# Altium footprint library Mechanicals.PcbLib: 13 footprints
Each footprint in its own frame and in the unit in brackets; x right, y up, seen from the top. Pads: shape width x height; smd on the part's side, far side on the other; paste and mask are expansions set on the pad; w line width, h text height; cw(c..) or ccw(c..) is an arc to the next point about the centre after c.
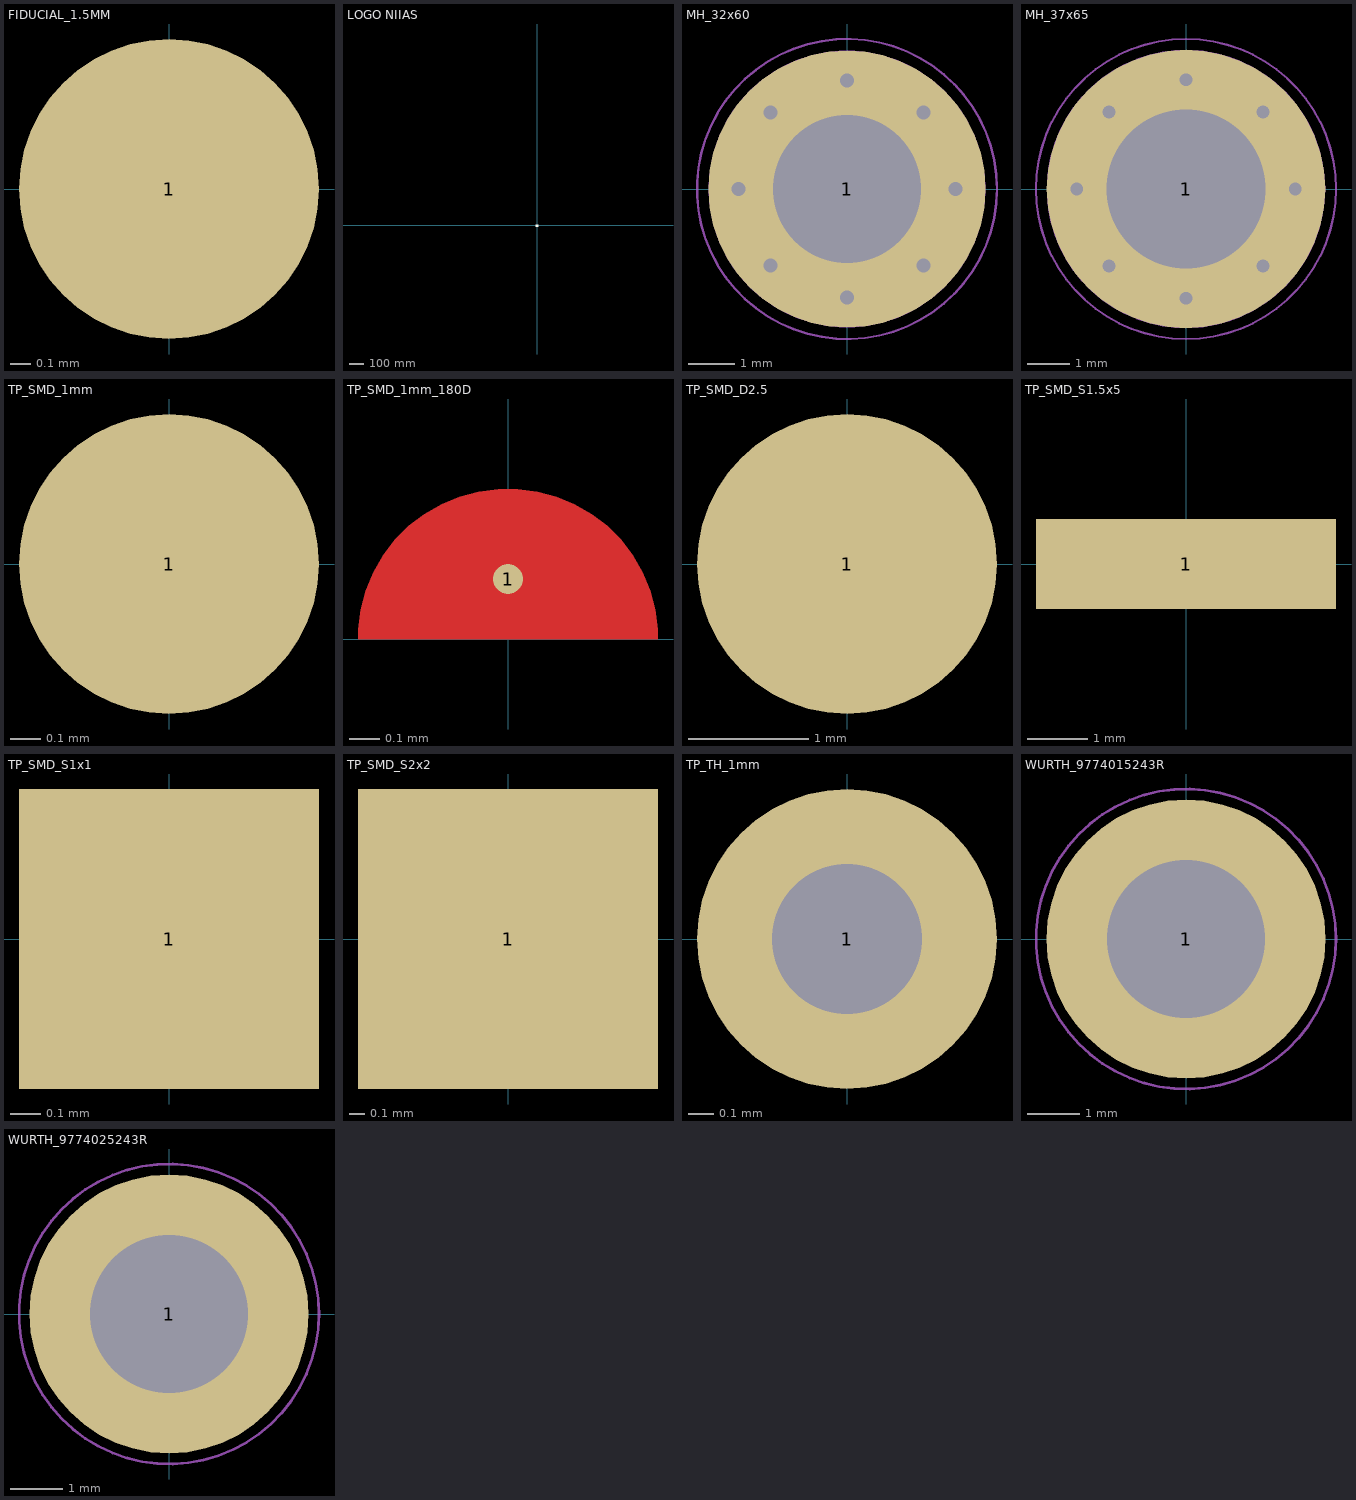
[diagram p0: the footprints below, top view; thin cyan lines are the x and y axes]

## FIDUCIAL_1.5MM [mm]
pads (1):
  round 1.5 smd paste-10 mask+1.5: 1(0,0)

## LOGO NIIAS [mm]
Top Overlay:
  drawing of 485 lines, arcs and shapes, not listed

## MH_32x60 [mm] "Mounting Hole, Plated; 6.00 mm Pad, 3.20 mm Hole (with 8 vias)"
pads (1):
  round 6 hole 3.2: 1(0,0)
via -1.66,1.66 diameter 0.6 hole 0.3
via 0,2.35 diameter 0.6 hole 0.3
via 1.66,1.66 diameter 0.6 hole 0.3
via 2.35,0 diameter 0.6 hole 0.3
via 1.66,-1.66 diameter 0.6 hole 0.3
via 0,-2.35 diameter 0.6 hole 0.3
via -1.66,-1.66 diameter 0.6 hole 0.3
via -2.35,0 diameter 0.6 hole 0.3
Mechanical 2:
  circle w0.12: c0,0 r1.54
  circle w0.12: c0,0 r2.94
  text ".Designator" at -1.821,-0.223 h1
Mechanical 3:
  circle w0.12: c0,0 r1.54
  circle w0.12: c0,0 r2.94
  text ".Designator" at 1.821,-0.223 h1
Mechanical 4:
  circle w0.05: c0,0 r0.25
  circle w0.05: c0,0 r3.25
  lines w0.05: -0.35,0 0.35,0 ; 0,-0.35 0,0.35
Mechanical 5:
  circle w0.05: c0,0 r0.25
  circle w0.05: c0,0 r3.25
  lines w0.05: -0.35,0 0.35,0 ; 0,-0.35 0,0.35

## MH_37x65 [mm] "Mounting Hole, Plated; 6.50 mm Pad, 3.70 mm Hole (with 8 vias)"
pads (1):
  round 6.5 hole 3.7: 1(0,0)
via -1.8,1.8 diameter 0.6 hole 0.3
via -2.55,0 diameter 0.6 hole 0.3
via -1.8,-1.8 diameter 0.6 hole 0.3
via 0,-2.55 diameter 0.6 hole 0.3
via 1.8,-1.8 diameter 0.6 hole 0.3
via 2.55,0 diameter 0.6 hole 0.3
via 1.8,1.8 diameter 0.6 hole 0.3
via 0,2.55 diameter 0.6 hole 0.3
Mechanical 11:
  circle w0.12: c0,0 r3.19
  circle w0.12: c0,0 r1.79
  text ".Designator" at -1.821,-0.223 h1
Mechanical 15:
  circle w0.05: c0,0 r3.5
Mechanical 17:
  circle w0.05: c0,0 r0.25
  circle w0.05: c0,0 r3.5
  lines w0.05: -0.35,0 0.35,0 ; 0,-0.35 0,0.35
Mechanical 18:
  circle w0.12: c0,0 r3.19
  circle w0.12: c0,0 r1.79
  text ".Designator" at 1.821,-0.223 h1

## TP_SMD_1mm [mm]
pads (1):
  round 1 smd: 1(0,0)

## TP_SMD_1mm_180D [mm] "Полугруглый тестпоинт."
pads (1):
  round 0.1 smd paste-5 mask-5: 1(0,0.2)
Top Layer:
  region: -0.5,0 -0.5,0.033 -0.491,0.098 -0.474,0.161 -0.449,0.222 -0.417,0.278 -0.377,0.33 -0.33,0.377 -0.278,0.417 -0.222,0.449 -0.161,0.474 -0.098,0.491 -0.033,0.5 0,0.5 0.033,0.5 0.098,0.491 0.161,0.474 0.222,0.449 0.278,0.417 0.33,0.377 0.377,0.33 0.417,0.278 0.449,0.222 0.474,0.161 0.491,0.098 0.5,0.033 0.5,0

## TP_SMD_D2.5 [mm] "SMD Testpoint 2.5mm diameter"
pads (1):
  round 2.5 smd paste-50: 1(0,0)

## TP_SMD_S1.5x5 [mm] "SMD square testpoint 1.5x5 mm."
pads (1):
  rect 5x1.5 smd paste-50: 1(0,0)

## TP_SMD_S1x1 [mm] "SMD square testpoint 1x1."
pads (1):
  rect 1x1 smd paste-50: 1(0,0)

## TP_SMD_S2x2 [mm] "SMD square testpoint 2x2 mm."
pads (1):
  rect 2x2 smd paste-50: 1(0,0)

## TP_TH_1mm [mm] "TH testpoint 1mm diameter hole"
pads (1):
  round 1.2 hole 0.6 paste-2539.97: 1(0,0)

## WURTH_9774015243R [mm] "Steel spacer M2"
pads (1):
  round 5.3 hole 3: 1(0,0)
Top Paste:
  region: -2.542,0.3 -2.517,0.513 -2.397,0.924 -2.21,1.31 -1.962,1.659 -1.659,1.962 -1.31,2.21 -0.924,2.397 -0.513,2.517 -0.3,2.542 -0.3,1.521 -0.411,1.494 -0.627,1.418 -0.829,1.31 -1.012,1.174 -1.174,1.012 -1.31,0.829 -1.418,0.627 -1.494,0.411 -1.521,0.3
  region: -0.3,-2.542 -0.513,-2.517 -0.924,-2.397 -1.31,-2.21 -1.659,-1.962 -1.962,-1.659 -2.21,-1.31 -2.397,-0.924 -2.517,-0.513 -2.542,-0.3 -1.521,-0.3 -1.494,-0.411 -1.418,-0.627 -1.31,-0.829 -1.174,-1.012 -1.012,-1.174 -0.829,-1.31 -0.627,-1.418 -0.411,-1.494 -0.3,-1.521
  region: 2.542,-0.3 2.517,-0.513 2.397,-0.924 2.21,-1.31 1.962,-1.659 1.659,-1.962 1.31,-2.21 0.924,-2.397 0.513,-2.517 0.3,-2.542 0.3,-1.521 0.411,-1.494 0.627,-1.418 0.829,-1.31 1.012,-1.174 1.174,-1.012 1.31,-0.829 1.418,-0.627 1.494,-0.411 1.521,-0.3
  region: 0.3,2.542 0.513,2.517 0.924,2.397 1.31,2.21 1.659,1.962 1.962,1.659 2.21,1.31 2.397,0.924 2.517,0.513 2.542,0.3 1.521,0.3 1.494,0.411 1.418,0.627 1.31,0.829 1.174,1.012 1.012,1.174 0.829,1.31 0.627,1.418 0.411,1.494 0.3,1.521
Mechanical 11:
  circle w0.1: c0,0 r2.175
  text ".Designator" at -3.378,-0.339 h1.5
Mechanical 15:
  circle w0.05: c0,0 r2.85
  lines w0.05: -0.5,0 0.5,0 ; 0,-0.5 0,0.5
3D body "9774015243.stp": height 1.5, standoff -1.4, extent -2.175,-2.172 2.175,2.172

## WURTH_9774025243R [mm]
pads (1):
  round 5.3 hole 3: 1(0,0)
Top Paste:
  region: 0.3,2.542 0.513,2.517 0.924,2.397 1.31,2.21 1.659,1.962 1.962,1.659 2.21,1.31 2.397,0.924 2.517,0.513 2.542,0.3 1.521,0.3 1.494,0.411 1.418,0.627 1.31,0.829 1.174,1.012 1.012,1.174 0.829,1.31 0.627,1.418 0.411,1.494 0.3,1.521
  region: 2.542,-0.3 2.517,-0.513 2.397,-0.924 2.21,-1.31 1.962,-1.659 1.659,-1.962 1.31,-2.21 0.924,-2.397 0.513,-2.517 0.3,-2.542 0.3,-1.521 0.411,-1.494 0.627,-1.418 0.829,-1.31 1.012,-1.174 1.174,-1.012 1.31,-0.829 1.418,-0.627 1.494,-0.411 1.521,-0.3
  region: -0.3,-2.542 -0.513,-2.517 -0.924,-2.397 -1.31,-2.21 -1.659,-1.962 -1.962,-1.659 -2.21,-1.31 -2.397,-0.924 -2.517,-0.513 -2.542,-0.3 -1.521,-0.3 -1.494,-0.411 -1.418,-0.627 -1.31,-0.829 -1.174,-1.012 -1.012,-1.174 -0.829,-1.31 -0.627,-1.418 -0.411,-1.494 -0.3,-1.521
  region: -2.542,0.3 -2.517,0.513 -2.397,0.924 -2.21,1.31 -1.962,1.659 -1.659,1.962 -1.31,2.21 -0.924,2.397 -0.513,2.517 -0.3,2.542 -0.3,1.521 -0.411,1.494 -0.627,1.418 -0.829,1.31 -1.012,1.174 -1.174,1.012 -1.31,0.829 -1.418,0.627 -1.494,0.411 -1.521,0.3
Mechanical 11:
  circle w0.1: c0,0 r2.175
  text ".Designator" at -3.378,-0.339 h1.5
Mechanical 15:
  circle w0.05: c0,0 r2.85
  lines w0.05: -0.5,0 0.5,0 ; 0,-0.5 0,0.5
3D body "9774025243R (rev1).stp": height 2.5, standoff -1.4, extent -2.175,-2.172 2.175,2.172